# Altium schematic symbol library SCH - POWER - LINEAR VREG - TI TPS70345-EP_PWP_24.SchLib: 1 symbol
Pins are listed as number, name and electrical type; pins without a type are passive.

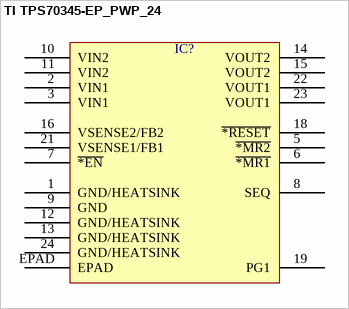
[diagram p0: symbol TI TPS70345-EP_PWP_24]

## TI TPS70345-EP_PWP_24
designator IC?  (value not drawn)
pins: 1 GND/HEATSINK, 2 VIN1, 3 VIN1, 5 ~{*MR2}, 6 ~{*MR1}, 7 ~{*EN}, 8 SEQ, 9 GND, 10 VIN2, 11 VIN2, 12 GND/HEATSINK, 13 GND/HEATSINK, 14 VOUT2, 15 VOUT2, 16 VSENSE2/FB2, 18 ~{*RESET}, 19 PG1, 21 VSENSE1/FB1, 22 VOUT1, 23 VOUT1, 24 GND/HEATSINK, EPAD